# EAGLE library part DS-04_MAEUSEKLAVIER (library 1A-meinLib)
DIP-Schalter, Standard, Typ DS, APEM
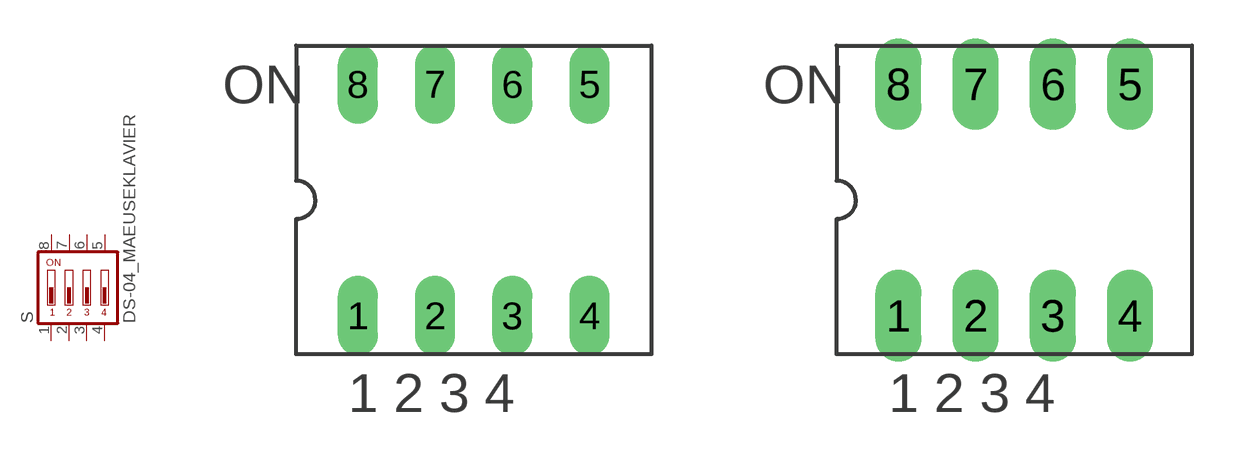
[diagram p243: symbol with the pads of DS-04; footprints DS-04, DS-4_WIRE-WRAP]

Designator prefix S

## DS-04_MAEUSEKLAVIER  [DS-04]
1  1  pas
2  2  pas
3  3  pas
4  4  pas
5  5  pas
6  6  pas
7  7  pas
8  8  pas

## DS-04_MAEUSEKLAVIERWIRE-WRAP  [DS-4_WIRE-WRAP]
Pads as for DS-04

## Footprint DS-04 (pad centres in mm)
Mäuseklavier, Typ DS..., APEM
drill 0.8 long: 1 -3.81,-3.81; 2 -1.27,-3.81; 3 1.27,-3.81; 4 3.81,-3.81; 5 3.81,3.81; 6 1.27,3.81; 7 -1.27,3.81; 8 -3.81,3.81

## Footprint DS-4_WIRE-WRAP (pad centres in mm)
Mäuseklavier, Typ DS..., APEM. Lochdurchmesser = 1mm ( Wire Wrap)
drill 1 long: 1 -3.81,-3.81; 2 -1.27,-3.81; 3 1.27,-3.81; 4 3.81,-3.81; 5 3.81,3.81; 6 1.27,3.81; 7 -1.27,3.81; 8 -3.81,3.81